# EAGLE library part MAX3467* (library COM_ETH-V1)
+5V, Fail-Safe, 40Mbps, Profibus RS-485/RS-422 Transceivers Source: MAX3465-MAX3469.pdf
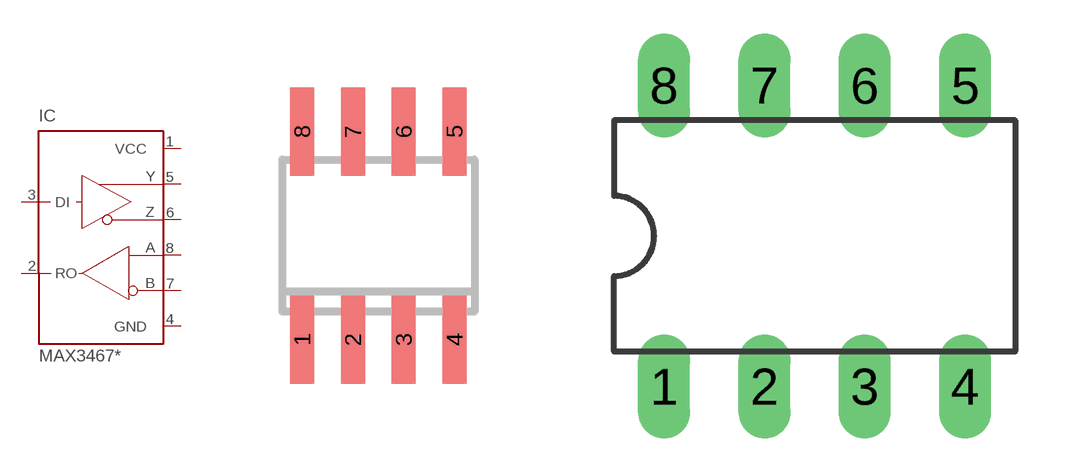
[diagram p9: symbol with the pads of SO08; footprints SO08, DIL08]

Designator prefix IC

## MAX3467PA, MAX3467CPA, MAX3467EPA  [SO08]
1  VCC  pwr
2  RO  out
3  DI  in
4  GND  pwr
5  Y  pas
6  Z  pas
7  B  pas
8  A  pas

## MAX3467SA, MAX3467CSA, MAX3467ESA  [DIL08]
Pads as for SO08

## Footprint SO08 (pad centres in mm)
SMALL OUTLINE INTEGRATED CIRCUIT body 3.9 mm/JEDEC MS-012AA
smd 0.6 x 2.2: 1 -1.905,-2.6; 2 -0.635,-2.6; 3 0.635,-2.6; 4 1.905,-2.6; 5 1.905,2.6; 6 0.635,2.6; 7 -0.635,2.6; 8 -1.905,2.6

## Footprint DIL08 (pad centres in mm)
Dual In Line Package
drill 0.813 long: 1 -3.81,-3.81; 2 -1.27,-3.81; 3 1.27,-3.81; 4 3.81,-3.81; 5 3.81,3.81; 6 1.27,3.81; 7 -1.27,3.81; 8 -3.81,3.81